# Altium footprint library Key.PcbLib: 1 footprints
Each footprint in its own frame and in the unit in brackets; x right, y up, seen from the top. Pads: shape width x height; smd on the part's side, far side on the other; paste and mask are expansions set on the pad; w line width, h text height; cw(c..) or ccw(c..) is an arc to the next point about the centre after c.
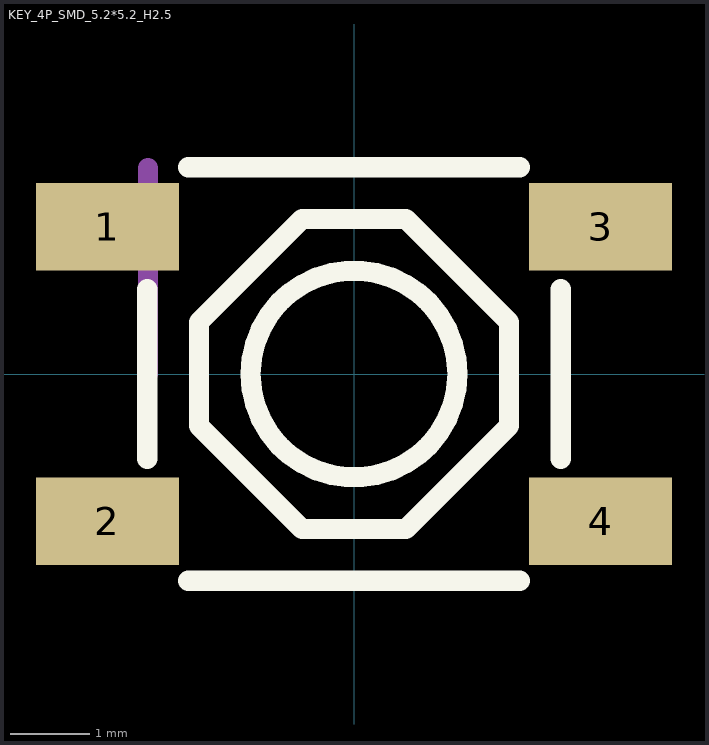
[diagram p0: the footprint, top view; thin cyan lines are the x and y axes]

## KEY_4P_SMD_5.2*5.2_H2.5 [mm]
pads (4):
  rect 1.8x1.1 smd: 1(-3.1,1.85) 2(-3.1,-1.85) 3(3.1,1.85) 4(3.1,-1.85)
Top Overlay:
  circle w0.254: c0,0 r1.3
  lines w0.254: -2.6,-1.069 -2.6,1.069 ; -2.087,-2.6 2.087,-2.6 ; -2.087,2.6 2.087,2.6 ; 2.6,-1.069 2.6,1.069 ; -1.95,-0.65 -1.95,0.65 -0.65,1.95 0.65,1.95 1.95,0.65 1.95,-0.65 0.65,-1.95 -0.65,-1.95 -1.95,-0.65
Mechanical 15:
  lines w0.254: -2.591,0 -2.591,2.591